# Altium footprint library Capacitors.PcbLib: 5 footprints
Each footprint in its own frame and in the unit in brackets; x right, y up, seen from the top. Pads: shape width x height; smd on the part's side, far side on the other; paste and mask are expansions set on the pad; w line width, h text height; cw(c..) or ccw(c..) is an arc to the next point about the centre after c.
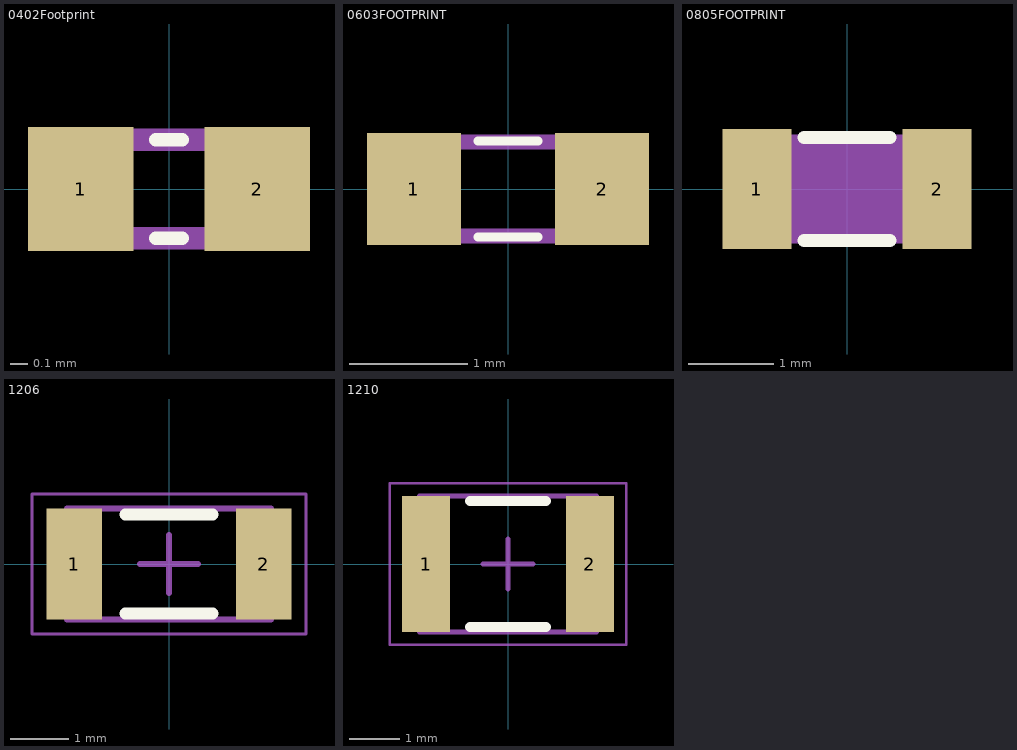
[diagram p0: the footprints below, top view; thin cyan lines are the x and y axes]

## 0402Footprint [mm]
pads (2):
  rect 0.6x0.7 smd mask+0.051: 1(-0.5,0) 2(0.5,0)
Top Overlay:
  lines w0.076: -0.076,-0.279 0.076,-0.279 ; -0.076,0.279 0.076,0.279
Mechanical 4:
  lines w0.127: -0.53,-0.28 -0.53,0.28 ; -0.53,-0.28 0.53,-0.28 ; -0.53,-0.28 -0.53,0.28 ; -0.53,-0.28 0.53,-0.28 ; -0.53,0.28 0.53,0.28 ; -0.53,0.28 0.53,0.28 ; 0.53,-0.28 0.53,0.28 ; 0.53,-0.28 0.53,0.28
3D body "cap0402.stp": height 0.5, standoff 0, extent -0.5,-0.279 0.5,0.271

## 0603FOOTPRINT [mm]
pads (2):
  rect 0.8x0.95 smd mask+0.051: 1(-0.8,0) 2(0.8,0)
Top Overlay:
  lines w0.076: -0.254,-0.406 0.254,-0.406 ; -0.254,0.406 0.254,0.406
Mechanical 4:
  region: -0.803,0.4 -0.45,0.4 -0.45,-0.402 -0.803,-0.402
  region: 0.452,0.4 0.8,0.4 0.8,-0.402 0.452,-0.402
  region: -0.803,0.4 -0.45,0.4 -0.45,-0.402 -0.803,-0.402
  region: 0.452,0.4 0.8,0.4 0.8,-0.402 0.452,-0.402
  lines w0.127: -0.8,-0.4 0.8,-0.4 ; -0.8,-0.4 -0.8,0.4 ; -0.8,-0.4 0.8,-0.4 ; -0.8,-0.4 -0.8,0.4 ; -0.8,0.4 0.8,0.4 ; -0.8,0.4 0.8,0.4 ; 0.8,-0.4 0.8,0.4 ; 0.8,-0.4 0.8,0.4
3D body "0603Cap.STEP": height 0.8, standoff 0, extent -0.8,-0.4 0.8,0.4

## 0805FOOTPRINT [mm]
pads (2):
  rect 0.8x1.4 smd paste+0 mask+0.051: 1(-1.05,0) 2(1.05,0)
Top Overlay:
  lines w0.152: -0.5,-0.6 0.5,-0.6 ; -0.5,0.6 0.5,0.6
Mechanical 5:
  region: 1.27,-0.635 -1.27,-0.635 -1.27,0.635 1.27,0.635
Mechanical 13:
  circle w0: c-0.724,0 r0.076
  lines w0.025: -1.003,-0.622 -1.003,0.622 ; -1.003,-0.622 -0.495,-0.622 -0.495,0.622 -1.003,0.622 ; -1.003,-0.622 -1.003,0.622 ; 1.003,-0.622 0.495,-0.622 0.495,0.622 1.003,0.622 ; 1.003,-0.622 1.003,0.622 ; 1.003,-0.622 1.003,0.622
3D body "G-21.step": height 1.45, standoff 0, extent -1.003,-0.622 1.003,0.622
3D body: height 0.25, standoff 0, extent 0,0 0.254,0.254

## 1206 [mm] "Chip Capacitor, 2-Leads, Body 3.20x1.60mm, IPC Medium Density"
height 1.6
pads (2):
  rect 0.95x1.9 smd: 1(-1.625,0) 2(1.625,0)
Top Overlay:
  lines w0.2: -0.75,-0.85 0.75,-0.85 ; -0.75,0.85 0.75,0.85
Mechanical 13:
  lines w0.1: -1.75,-0.95 1.75,-0.95 1.75,0.95 -1.75,0.95 -1.75,-0.95
Mechanical 15:
  lines w0.05: -2.35,-1.2 2.35,-1.2 2.35,1.2 -2.35,1.2 -2.35,-1.2
  lines w0.1: -0.5,0 0.5,0 ; 0,-0.5 0,0.5
3D body "CAPC3216X16N.step": height 1.6, standoff 0, extent -1.75,-0.95 1.75,0.95

## 1210 [mm] "Chip Capacitor, 2-Leads, Body 3.20x2.50mm, IPC Medium Density"
height 2.7
pads (2):
  rect 0.95x2.7 smd: 1(-1.625,0) 2(1.625,0)
Top Overlay:
  lines w0.2: -0.75,-1.25 0.75,-1.25 ; -0.75,1.25 0.75,1.25
Mechanical 13:
  lines w0.1: -1.75,-1.35 -1.75,1.35 1.75,1.35 1.75,-1.35 -1.75,-1.35
Mechanical 15:
  lines w0.05: -2.35,-1.6 -2.35,1.6 2.35,1.6 2.35,-1.6 -2.35,-1.6
  lines w0.1: -0.5,0 0.5,0 ; 0,-0.5 0,0.5
3D body "CAPC3225X27N.step": height 2.7, standoff 0, extent -1.75,-1.35 1.75,1.35